# EAGLE library part XPORT (library netnode)
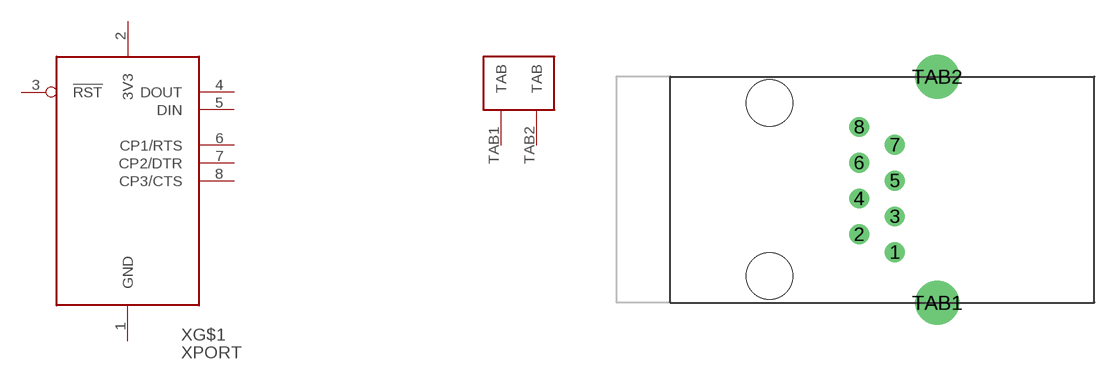
[diagram p5: symbol with the pads of XPORT; footprint XPORT]

Designator prefix X; gates G$1=XPORT G$2=XPORT_THERMAL

## XPORT  [XPORT]
1  G$1:GND  pwr
2  G$1:3V3  pwr
3  G$1:!RST  in
4  G$1:DOUT  out
5  G$1:DIN  in
6  G$1:CP1/RTS
7  G$1:CP2/DTR
8  G$1:CP3/CTS  in
TAB1  G$2:TAB  pwr
TAB2  G$2:TAB  pwr

## Footprint XPORT (pad centres in mm)
drill 0.9: 1 19.74,3.58; 2 17.2,4.85; 3 19.74,6.12; 4 17.2,7.39; 5 19.74,8.66; 6 17.2,9.93; 7 19.74,11.2; 8 17.2,12.47
drill 2.1: TAB1 22.75,0; TAB2 22.75,16.05
hole 3.3 at 10.85,1.88
hole 3.3 at 10.85,14.18